# Altium footprint library Heatsinks.PcbLib: 17 footprints (part 1 of 2)
Each footprint in its own frame and in the unit in brackets; x right, y up, seen from the top. Pads: shape width x height; smd on the part's side, far side on the other; paste and mask are expansions set on the pad; w line width, h text height; cw(c..) or ccw(c..) is an arc to the next point about the centre after c.
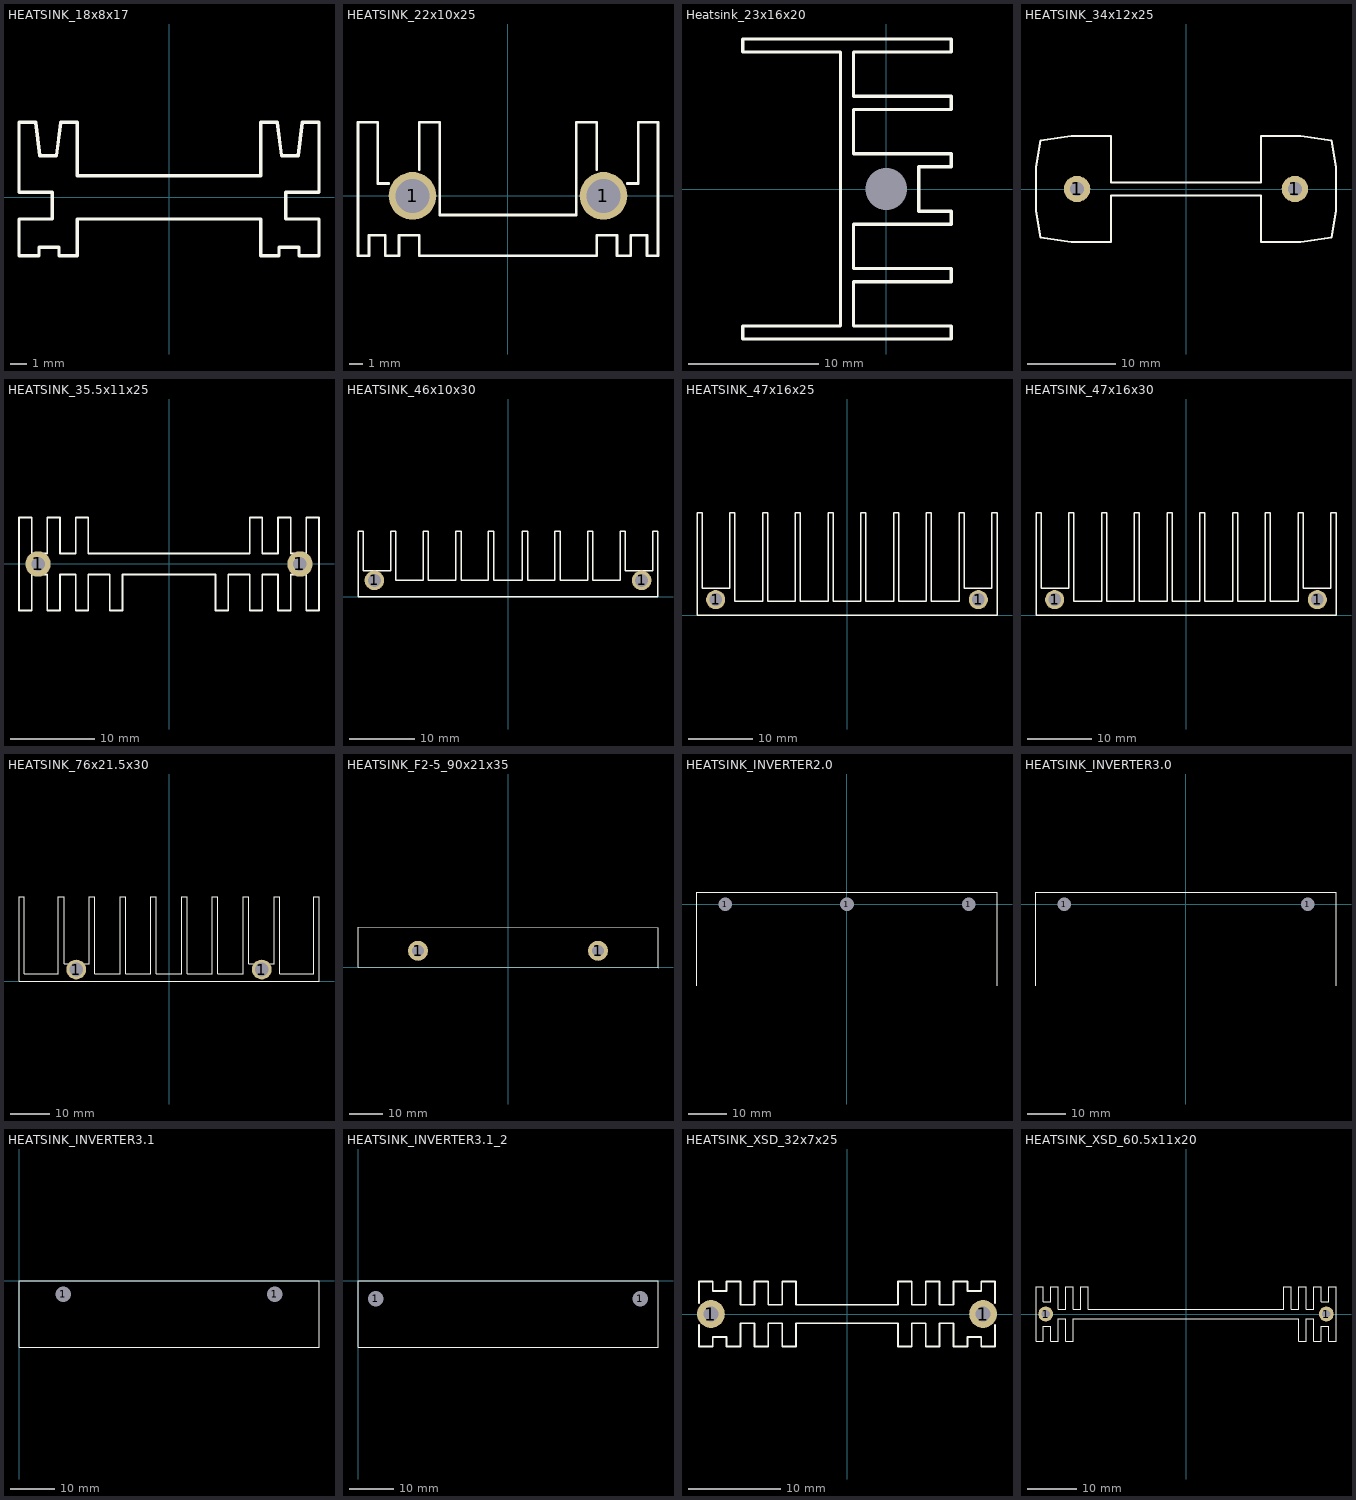
[diagram p0: the footprints below, top view; thin cyan lines are the x and y axes]

## HEATSINK_18x8x17 [mm]
height 25
Top Overlay:
  lines w0.2: -9,-3.5 -7.8,-3.5 -7.8,-3 -6.6,-3 -6.6,-3.5 -5.5,-3.5 -5.5,-1.3 5.5,-1.3 5.5,-3.5 6.6,-3.5 6.6,-3 7.8,-3 7.8,-3.5 9,-3.5 9,-1.3 7,-1.3 7,0.3 9,0.3 9,4.5 8,4.5 7.75,2.5 6.75,2.5 6.5,4.5 5.5,4.5 5.5,1.3 -5.5,1.3 -5.5,4.5 -6.5,4.5 -6.75,2.5 -7.75,2.5 -8,4.5 -9,4.5 -9,0.3 -7,0.3 -7,-1.3 -9,-1.3 -9,-3.5
3D body: height 17, standoff 0, extent 0,-3.5 9,4.5
3D body: height 17, standoff 0, extent -9,-3.5 0,4.5

## HEATSINK_22x10x25 [mm] "S=2680mm2 + 112mm2(endcap)"
height 25
pads (2):
  round 3.5 hole 2.5: 1(-7,0) 1(7,0)
Top Overlay:
  lines w0.2: -8.744,0.9 -9.55,0.9 -9.55,5.4 -11,5.4 -11,-4.4 -10.2,-4.4 -10.2,-2.9 -9,-2.9 -9,-4.4 -8,-4.4 -8,-2.9 -6.5,-2.9 -6.5,-4.4 0,-4.4 6.5,-4.4 6.5,-2.9 8,-2.9 8,-4.4 9,-4.4 9,-2.9 10.2,-2.9 10.2,-4.4 11,-4.4 11,5.4 9.55,5.4 9.55,0.9 8.744,0.9 ; -6.5,1.936 -6.5,5.4 -5,5.4 -5,-1.4 0,-1.4 5,-1.4 5,5.4 6.5,5.4 6.5,1.936
3D body: height 25, standoff 0, extent -11.025,-4.4 0,5.4
3D body: height 0, standoff -2.5, extent 5.9,-1.1 8.1,1.1
3D body: height 0, standoff -2.5, extent -8.1,-1.1 -5.9,1.1
3D body: height 25, standoff 0, extent 0,-4.4 11.025,5.4

## Heatsink_23x16x20 [mm]
height 20
pads (1):
  round 0 / inner round 0 / far side round 4.5 hole 3.2 unplated: 1(0,0)
Top Overlay:
  lines w0.254: -11,-11.5 5,-11.5 5,-10.5 -2.5,-10.5 -2.5,-7.1 5,-7.1 5,-6.1 -2.5,-6.1 -2.5,-2.7 5,-2.7 5,-1.7 2.5,-1.7 2.5,1.7 5,1.7 5,2.7 -2.5,2.7 -2.5,6.1 5,6.1 5,7.1 -2.5,7.1 -2.5,10.5 5,10.5 5,11.5 -11,11.5 -11,10.5 -3.5,10.5 -3.5,-10.5 -11,-10.5 -11,-11.5
3D body: height 20, standoff 0, extent -2.5,-1.7 2.5,1.7
3D body: height 20, standoff 0, extent -11,-11.5 -3.5,-10.5
3D body: height 20, standoff 0, extent -2.5,-11.5 5,-10.5
3D body: height 20, standoff 0, extent -2.5,-7.1 5,-6.1
3D body: height 20, standoff 0, extent -2.5,-2.7 5,-1.7
3D body: height 20, standoff 0, extent -2.5,1.7 5,2.7
3D body: height 20, standoff 0, extent -2.5,6.1 5,7.1
3D body: height 20, standoff 0, extent -2.5,10.5 5,11.5
3D body: height 20, standoff 0, extent -3.5,-11.5 -2.5,11.5
3D body: height 20, standoff 0, extent -11,10.5 -3.5,11.5

## HEATSINK_34x12x25 [mm]
height 25
pads (2):
  round 3 hole 1.6: 1(-12.35,0) 1(12.35,0)
Top Overlay:
  lines w0.2: -17,-2.5 -17,0 -17,2.5 -16.5,5.5 -13,6 -8.5,6 -8.5,0.75 0,0.75 8.5,0.75 8.5,6 13,6 16.5,5.5 17,2.5 17,0 17,-2.5 16.5,-5.5 13,-6 8.5,-6 8.5,-0.75 0,-0.75 -8.5,-0.75 -8.5,-6 -13,-6 -16.5,-5.5 -17,-2.5
3D body: height 0, standoff -2.5, extent 11.7,-0.649 12.995,0.649
3D body: height 25, standoff 0, extent 0,-0.75 14.25,0.75
3D body: height 25, standoff 0, extent 8.5,-6 9.5,6
3D body: height 25, standoff 0, extent 9.5,0 17,6
3D body: height 25, standoff 0, extent 9.5,-6 17,0
3D body: height 25, standoff 0, extent -17,0 -9.5,6
3D body: height 25, standoff 0, extent -17,-6 -9.5,0
3D body: height 25, standoff 0, extent -9.5,-6 -8.5,6
3D body: height 25, standoff 0, extent -14.25,-0.75 0,0.75
3D body: height 0, standoff -2.5, extent -12.995,-0.649 -11.7,0.649

## HEATSINK_35.5x11x25 [mm] "S=4880mm2 + 178mm2(endcap)"
height 25
pads (2):
  round 3 hole 1.6: 1(-15.5,0) 1(15.5,0)
Top Overlay:
  lines w0.2: -17.75,-5.5 -16.25,-5.5 -16.25,-1.25 -14.4,-1.25 -14.4,-5.5 -12.9,-5.5 -12.9,-1.25 -11.05,-1.25 -11.05,-5.499 -9.55,-5.499 -9.55,-1.25 -7,-1.25 -7,-5.499 -5.5,-5.499 -5.5,-1.25 5.5,-1.25 5.5,-5.499 7,-5.499 7,-1.25 9.55,-1.25 9.55,-5.499 11.05,-5.499 11.05,-1.25 12.9,-1.25 12.9,-5.5 14.4,-5.5 14.4,-1.25 16.25,-1.25 16.25,-5.5 17.75,-5.5 17.75,5.5 16.25,5.5 16.25,1.25 14.4,1.25 14.4,5.5 12.9,5.5 12.9,1.25 11.05,1.25 11.05,5.499 9.55,5.499 9.55,1.25 -9.55,1.25 -9.55,5.499 -11.05,5.499 -11.05,1.25 -12.9,1.25 -12.9,5.5 -14.4,5.5 -14.4,1.25 -16.25,1.25 -16.25,5.5 -17.75,5.5 -17.75,-5.5
3D body: height 25, standoff 0, extent 5.5,-5.499 7,-1.25
3D body: height 25, standoff 0, extent -7,-5.499 -5.5,-1.25
3D body: height 25, standoff 0, extent 16.25,-5.5 17.75,5.5
3D body: height 25, standoff 0, extent 12.9,-5.5 14.4,5.5
3D body: height 25, standoff 0, extent 9.55,-5.501 11.05,5.499
3D body: height 25, standoff 0, extent -11.05,-5.501 -9.55,5.499
3D body: height 25, standoff 0, extent -14.4,-5.5 -12.9,5.5
3D body: height 25, standoff 0, extent -17.75,-5.5 -16.25,5.5
3D body: height 25, standoff 0, extent -17.7,-1.25 17.75,1.25
3D body: height 0, standoff -2.5, extent -16.145,-0.649 -14.85,0.649
3D body: height 0, standoff -2.5, extent 14.855,-0.649 16.15,0.649

## HEATSINK_46x10x30 [mm] "S~7332mm2 + 180mm2(endcap)"
height 30
pads (2):
  round 3 hole 2: 1(-20.5,2.5) 1(20.5,2.5)
Top Overlay:
  lines w0.2: -23,0 -23,10 -22.2,10 -22.2,4 -18,4 -18,10 -17.2,10 -17.2,2.5 -13,2.5 -13,10 -12.2,10 -12.2,2.5 -8,2.5 -8,10 -7.2,10 -7.2,2.5 -3,2.5 -3,10 -2.2,10 -2.2,2.5 0,2.5 2.2,2.5 2.2,10 3,10 3,2.5 7.2,2.5 7.2,10 8,10 8,2.5 12.2,2.5 12.2,10 13,10 13,2.5 17.2,2.5 17.2,10 18,10 18,4 22.2,4 22.2,10 23,10 23,0 0,0 -23,0
3D body: height 30, standoff 0, extent -23,0 0,10
3D body: height 0, standoff -2.5, extent -21.2,1.8 -19.8,3.2
3D body: height 30, standoff 0, extent 0,0 23,10
3D body: height 0, standoff -2.5, extent 19.8,1.8 21.2,3.2

## HEATSINK_47x16x25 [mm] "S~9160mm2 + 231mm2(endcap)"
height 25
pads (2):
  round 3 hole 2: 1(-20.575,2.42) 1(20.575,2.42)
Top Overlay:
  lines w0.2: -23.5,0 -23.5,16 -22.7,16 -22.7,4.2 -18.367,4.2 -18.367,16 -17.567,16 -17.567,2.2 -13.234,2.2 -13.234,16 -12.434,16 -12.434,2.2 -8.101,2.2 -8.101,16 -7.301,16 -7.301,2.2 -2.968,2.2 -2.968,16 -2.168,16 -2.168,2.2 0,2.2 2.168,2.2 2.168,16 2.968,16 2.968,2.2 7.301,2.2 7.301,16 8.101,16 8.101,2.2 12.434,2.2 12.434,16 13.234,16 13.234,2.2 17.567,2.2 17.567,16 18.367,16 18.367,4.2 22.7,4.2 22.7,16 23.5,16 23.5,0 0,0 -23.5,0
3D body: height 30, standoff 0, extent -23.5,0 0,16
3D body: height 0, standoff -2.5, extent -21.275,1.72 -19.875,3.12
3D body: height 30, standoff 0, extent 0,0 23.5,16
3D body: height 0, standoff -2.5, extent 19.875,1.72 21.275,3.12

## HEATSINK_47x16x30 [mm] "S~10992mm2 + 231mm2(endcap)"
height 30
pads (2):
  round 3 hole 2: 1(-20.575,2.42) 1(20.575,2.42)
Top Overlay:
  lines w0.2: -23.5,0 -23.5,16 -22.7,16 -22.7,4.2 -18.367,4.2 -18.367,16 -17.567,16 -17.567,2.2 -13.234,2.2 -13.234,16 -12.434,16 -12.434,2.2 -8.101,2.2 -8.101,16 -7.301,16 -7.301,2.2 -2.968,2.2 -2.968,16 -2.168,16 -2.168,2.2 0,2.2 2.168,2.2 2.168,16 2.968,16 2.968,2.2 7.301,2.2 7.301,16 8.101,16 8.101,2.2 12.434,2.2 12.434,16 13.234,16 13.234,2.2 17.567,2.2 17.567,16 18.367,16 18.367,4.2 22.7,4.2 22.7,16 23.5,16 23.5,0 0,0 -23.5,0
3D body: height 30, standoff 0, extent -23.5,0 0,16
3D body: height 0, standoff -2.5, extent -21.275,1.72 -19.875,3.12
3D body: height 30, standoff 0, extent 0,0 23.5,16
3D body: height 0, standoff -2.5, extent 19.875,1.72 21.275,3.12

## HEATSINK_76x21.5x30 [mm]
height 30
pads (2):
  round 5 hole 3.5: 1(-23.5,3) 1(23.5,3)
Top Overlay:
  lines w0.2: -38,0 -38,21.5 -36.7,21.5 -36.7,2 -28,2 -28,21.5 -26.6,21.5 -26.6,4.5 -20.2,4.5 -20.2,21.5 -18.8,21.5 -18.8,2 -12.4,2 -12.4,21.5 -11,21.5 -11,2 -4.6,2 -4.6,21.5 -3.2,21.5 -3.2,2 0,2 3.2,2 3.2,21.5 4.6,21.5 4.6,2 11,2 11,21.5 12.4,21.5 12.4,2 18.8,2 18.8,21.5 20.2,21.5 20.2,4.5 26.6,4.5 26.6,21.5 28,21.5 28,2 36.7,2 36.7,21.5 38,21.5 38,0 0,0 -38,0
Drill Guide:
  lines w0.2: 0,0 0,2 ; 16,0 16,2 ; 32,0 32,2
3D body: height 30, standoff 0, extent 0,0 38,21.5
3D body: height 30, standoff 0, extent -38,0 0,21.5

## HEATSINK_F2-5_90x21x35 [mm]
height 35
pads (2):
  round 6 hole 3.5: 1(-27,5) 1(27,5)
Top Overlay:
  lines w0.2: -45,0 45,0 45,12 -45,12 -45,0
Drill Guide:
  lines w0.2: -36,12 -36,17.1 ; -18,12 -18,17.1 ; 0,12 0,17.1 ; 18,12 18,17.1 ; 36,12 36,17.1
3D body "F2-5.stp": height 35, standoff 0, extent -45,0 45,21

## HEATSINK_INVERTER2.0 [mm] "Радиатор для охлаждения симистора инвертора"
height 50
pads (3):
  round 3 hole 3.5 unplated: 1(-31.5,0) 1(0,0) 1(31.5,0)
Top Overlay:
  lines w0.2: -38.8,-21 -38.8,3.1 38.8,3.1 38.8,-21
3D body "Heatsink_AB0099_50х90х26_Inverter_mod.STEP": height 48, standoff 0, extent -38.7,-23 38.7,3

## HEATSINK_INVERTER3.0 [mm] "Heatsink for Inverter_pmu_v2.0_77.4x26x26mm (Custom)"
height 50
pads (2):
  round 3 hole 3.5 unplated: 1(-31.5,0) 1(31.5,0)
Top Overlay:
  lines w0.2: -38.8,-21 -38.8,3.1 38.8,3.1 38.8,-21
3D body "New_radiator_for_inverter_2.0.STEP": height 26, standoff 0, extent -38.7,-23 38.7,3

## HEATSINK_INVERTER3.1 [mm] "Heatsink for Inverter_pmu_v3.1_68x15x33mm (Custom)"
height 33
pads (2):
  round 3 hole 3.5 unplated: 1(10,-3) 1(58,-3)
Top Overlay:
  lines w0.2: 0,-14.986 0,0 68,0 68,-14.986 0,-14.986
3D body "Heatsink for Inverter_pmu_v3.1.STEP": height 33, standoff 0, extent 0,-15 68,0

## HEATSINK_INVERTER3.1_2 [mm] "Heatsink for Inverter_pmu_v3.1_68x15x33mm (Custom)"
height 33
pads (2):
  round 3 hole 3.5 unplated: 1(4,-4) 1(64,-4)
Top Overlay:
  lines w0.2: 0,-14.986 0,0 68,0 68,-14.986 0,-14.986
3D body "Heatsink for Inverter_pmu_v3.1_2.STEP": height 33, standoff 0, extent 0,-15 68,0

## HEATSINK_XSD_32x7x25 [mm]
height 25
pads (2):
  round 3 hole 1.6: 1(-14.7,0) 1(14.7,0)
Top Overlay:
  lines w0.2: -16,-1.2 -16,-3.5 -14.5,-3.5 -14.5,-2.5 -13,-2.5 -13,-3.5 -11.5,-3.5 -11.5,-1 -10,-1 -10,-3.5 -8.5,-3.5 -8.5,-1 -7,-1 -7,-3.5 -5.5,-3.5 -5.5,-1 0,-1 5.5,-1 5.5,-3.5 7,-3.5 7,-1 8.5,-1 8.5,-3.5 10,-3.5 10,-1 11.5,-1 11.5,-3.5 13,-3.5 13,-2.5 14.5,-2.5 14.5,-3.5 16,-3.5 16,-1.2 ; -16,1.2 -16,3.5 -14.5,3.5 -14.5,2.5 -13,2.5 -13,3.5 -11.5,3.5 -11.5,1 -10,1 -10,3.5 -8.5,3.5 -8.5,1 -7,1 -7,3.5 -5.5,3.5 -5.5,1 0,1 5.5,1 5.5,3.5 7,3.5 7,1 8.5,1 8.5,3.5 10,3.5 10,1 11.5,1 11.5,3.5 13,3.5 13,2.5 14.5,2.5 14.5,3.5 16,3.5 16,1.2
3D body: height 0, standoff -2.5, extent 14.855,-0.649 16.15,0.649
3D body: height 0, standoff -2.5, extent -16.145,-0.649 -14.85,0.649
3D body: height 25, standoff 0, extent -16,0 0,3.5
3D body: height 25, standoff 0, extent -16,-3.5 0,0
3D body: height 25, standoff 0, extent 0,-3.5 16,0
3D body: height 25, standoff 0, extent 0,0 16,3.5

## HEATSINK_XSD_60.5x11x20 [mm] "S~5975mm2 + 224.5mm2(endcap)"
height 20
pads (2):
  round 3 hole 1.7: 1(-28.3,0) 1(28.3,0)
Top Overlay:
  lines w0.2: -30.25,-5.5 -30.25,0 -30.25,5.5 -28.75,5.5 -28.75,2.5 -27.25,2.5 -27.25,5.5 -25.75,5.5 -25.75,1 -24.25,1 -24.25,5.5 -22.75,5.5 -22.75,1 -21.25,1 -21.25,5.5 -19.75,5.5 -19.75,1 0,1 19.75,1 19.75,5.5 21.25,5.5 21.25,1 22.75,1 22.75,5.5 24.25,5.5 24.25,1 25.75,1 25.75,5.5 27.25,5.5 27.25,2.5 28.75,2.5 28.75,5.5 30.25,5.5 30.25,0 30.25,-5.5 28.75,-5.5 28.75,-2.5 27.25,-2.5 27.25,-5.5 25.75,-5.5 25.75,-1 24.25,-1 24.25,-5.5 22.75,-5.5 22.75,-1 0,-1 -22.75,-1 -22.75,-5.5 -24.25,-5.5 -24.25,-1 -25.75,-1 -25.75,-5.5 -27.25,-5.5 -27.25,-2.5 -28.75,-2.5 -28.75,-5.5 -30.25,-5.5
Drill Guide:
  lines w0.2: -10,-1 -10,1 ; 0,-1 0,1 ; 10,-1 10,1
3D body: height 0, standoff -2.5, extent -28.945,-0.649 -27.65,0.649
3D body: height 20, standoff 0, extent 0,0 30.25,5.5
3D body: height 0, standoff -2.5, extent 27.65,-0.65 28.95,0.65
3D body: height 20, standoff 0, extent 0,-5.5 30.25,0
3D body: height 20, standoff 0, extent -30.25,0 0,5.5
3D body: height 20, standoff 0, extent -30.25,-5.5 0,0